# EAGLE library part TPS6126X (library fab)
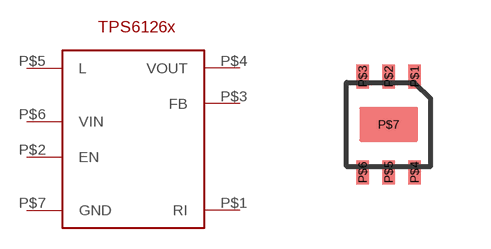
[diagram p16: symbol with the pads of S-PWSON-N6; footprint S-PWSON-N6]

Designator prefix -

## TPS6126X  [S-PWSON-N6]
P$1  RI
P$2  EN
P$3  FB
P$4  VOUT
P$5  L
P$6  VIN
P$7  GND

## Footprint S-PWSON-N6 (pad centres in mm)
smd 0.305 x 0.61: P$1 0.65,1.2; P$2 0,1.2; P$3 -0.65,1.2; P$4 0.65,-1.2; P$5 0,-1.2; P$6 -0.65,-1.2
smd 0.61 x 0.305: P$7 0,0